# Altium footprint library Leds.PcbLib: 14 footprints
Each footprint in its own frame and in the unit in brackets; x right, y up, seen from the top. Pads: shape width x height; smd on the part's side, far side on the other; paste and mask are expansions set on the pad; w line width, h text height; cw(c..) or ccw(c..) is an arc to the next point about the centre after c.
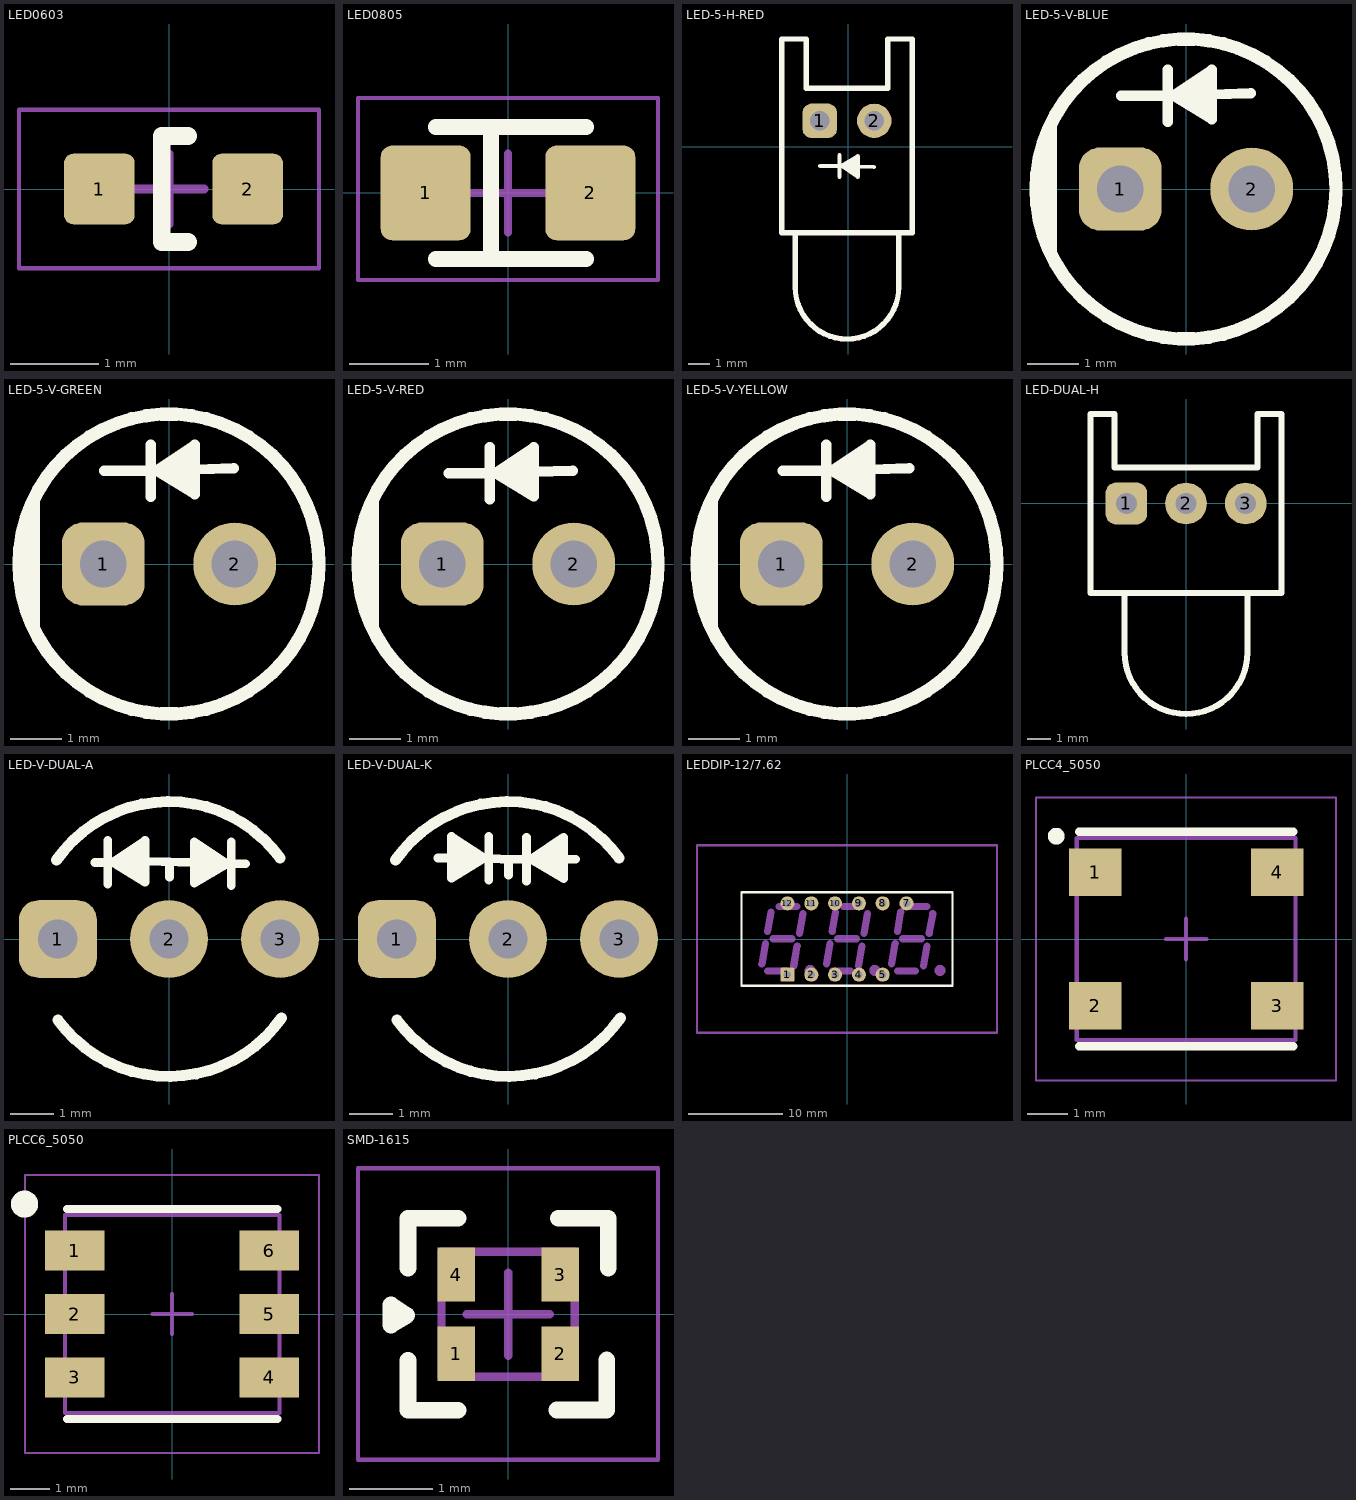
[diagram p0: the footprints below, top view; thin cyan lines are the x and y axes]

## LED0603 [mm]
pads (2):
  rrect25% 0.8x0.8 smd mask+0.05: 1(-0.789,0) 2(0.891,0)
Top Overlay:
  lines w0.2: -0.084,-0.6 0.216,-0.6 -0.084,-0.6 ; -0.084,-0.6 -0.084,0.6 ; -0.084,0.6 0.216,0.6 -0.084,0.6
Mechanical 15:
  lines w0.05: -1.7,-0.9 1.7,-0.9 1.7,0.9 -1.7,0.9 -1.7,-0.9
  lines w0.1: -0.4,0 0.4,0 ; 0,-0.4 0,0.4
3D body "User Library-LED SMD0603.step": height 0.68, standoff 0, extent -0.783,-0.368 0.867,0.357

## LED0805 [mm]
pads (2):
  rrect25% 1.14x1.2 smd mask+0.05: 1(-1.042,0) 2(1.042,0)
Top Overlay:
  lines w0.2: -0.915,-0.835 0.99,-0.835 ; -0.915,0.835 0.99,0.835 ; -0.215,-0.8 -0.215,0.8
Mechanical 15:
  lines w0.05: -1.9,-1.1 -1.9,1.2 1.9,1.2 1.9,-1.1 -1.9,-1.1
  lines w0.1: -0.5,0 0.5,0 ; 0,-0.5 0,0.5
3D body "User Library-LED SMD0805.step": height 0.85, standoff 0.01, extent -1.019,-0.45 1.043,0.456

## LED-5-H-RED [mm] "LED; 2 Leads; Hor"
pads (2):
  rrect50% 1.6x1.6 hole 0.9: 1(-1.32,1.2)
  round 1.6 hole 0.9: 2(1.22,1.2)
Top Overlay:
  region: 0.45,-0.425 0.45,-1.375 -0.3,-0.925
  lines w0.2: -1.3,-0.9 -0.4,-0.9 ; -0.4,-1.4 -0.4,-0.4 ; 0.45,-0.925 1.2,-0.95 ; -0.3,-0.9 0.45,-1.4 0.45,-0.45 -0.3,-0.9
  lines w0.254: -2.463,-4.007 -2.463,-6.547 ccw(c-0.05,-6.547) 2.363,-6.547 2.363,-4.007 ; -3.098,-4.007 -3.098,5.01 -1.955,5.01 -1.955,2.724 1.855,2.724 1.855,5.01 2.998,5.01 2.998,-4.007 -3.098,-4.007
3D body "ALSRobot-LED Red 5mm V.step": height 7, standoff -2, extent -3.05,-9.207 2.6,1.512

## LED-5-V-BLUE [mm] "LED; 2 Leads; Vertical"
height 10
pads (2):
  rrect50% 1.6x1.6 hole 0.9: 1(-1.27,0)
  round 1.6 hole 0.9: 2(1.27,0)
Top Overlay:
  circle w0.254: c0,0 r2.896
  region: 0.5,2.3 0.5,1.35 -0.25,1.8
  region: -2.5,1.376 -2.644,1.232 -2.8,1.076 -2.8,-0.999 -2.5,-1.299
  lines w0.2: -1.25,1.8 -0.35,1.8 ; -0.35,1.3 -0.35,2.3 ; 0.5,1.825 1.25,1.85 ; -0.25,1.8 0.5,2.3 0.5,1.35 -0.25,1.8
3D body "everlight-5MM-LED-BLUE.step": height 12.04, standoff -3.93, extent -2.5,-2.95 2.95,2.95

## LED-5-V-GREEN [mm] "LED; 2 Leads; Vertical"
height 10
pads (2):
  rrect50% 1.6x1.6 hole 0.9: 1(-1.27,0)
  round 1.6 hole 0.9: 2(1.27,0)
Top Overlay:
  circle w0.254: c0,0 r2.896
  region: 0.5,2.3 0.5,1.35 -0.25,1.8
  region: -2.5,1.326 -2.644,1.182 -2.8,1.026 -2.8,-1.049 -2.5,-1.349
  lines w0.2: -1.25,1.8 -0.35,1.8 ; -0.35,1.3 -0.35,2.3 ; 0.5,1.825 1.25,1.85 ; -0.25,1.8 0.5,2.3 0.5,1.35 -0.25,1.8
3D body "everlight-5MM-LED-GREEN.step": height 12.04, standoff -3.93, extent -2.5,-2.95 2.95,2.95

## LED-5-V-RED [mm] "LED; 2 Leads; Vertical"
height 10
pads (2):
  rrect50% 1.6x1.6 hole 0.9: 1(-1.27,0)
  round 1.6 hole 0.9: 2(1.27,0)
Top Overlay:
  circle w0.254: c0,0 r2.896
  region: -2.5,1.326 -2.644,1.182 -2.8,1.026 -2.8,-1.049 -2.5,-1.349
  region: 0.5,2.253 0.5,1.303 -0.25,1.753
  lines w0.2: -1.145,1.753 -0.35,1.753 ; -0.35,1.253 -0.35,2.253 ; 0.5,1.778 1.25,1.803 ; -0.25,1.753 0.5,1.303 0.5,2.253 -0.25,1.753
3D body "ALSRobot-LED Red 5mm.STEP": height 12.31, standoff -2.49, extent 1.29,-4.824 6.71,1.196

## LED-5-V-YELLOW [mm] "LED; 2 Leads; Vertical"
height 10
pads (2):
  rrect50% 1.6x1.6 hole 0.9: 1(-1.27,0)
  round 1.6 hole 0.9: 2(1.27,0)
Top Overlay:
  circle w0.254: c0,0 r2.896
  region: -2.5,1.326 -2.644,1.182 -2.8,1.026 -2.8,-1.049 -2.5,-1.349
  region: 0.45,2.25 0.45,1.3 -0.3,1.75
  lines w0.2: -1.242,1.8 -0.4,1.8 ; -0.4,1.3 -0.4,2.3 ; 0.45,1.825 1.2,1.85 ; -0.3,1.8 0.45,2.3 0.45,1.35 -0.3,1.8
3D body "everlight-5MM-LED-YELLOW.step": height 12.04, standoff -3.93, extent -2.5,-2.95 2.95,2.95

## LED-DUAL-H [mil] "DUAL LED; 3 Leads; Hor"
pads (3):
  rrect50% 70x70 hole 35.43: 1(-100,0)
  round 70 hole 35.43: 2(0,0) 3(100,0)
Top Overlay:
  lines w10: -103,-251 -103,-151 ; -102.96,-250 ccw(c0,-250) 102.96,-250 ; 103,-250 103,-150 ; -160,-150 160,-150 160,150 120,150 120,60 -120,60 -120,150 -160,150 -160,-150

## LED-V-DUAL-A [mil] "DUAL LED; 3 Leads; Common anode"
pads (3):
  rrect50% 70x70 hole 35.43: 1(-100,0)
  round 70 hole 35.43: 2(0,0) 3(100,0)
Top Overlay:
  region: -21.65,88.58 -21.65,51.18 -51.18,68.9
  region: 22.64,87.6 22.64,50.2 52.17,67.91
  lines w7.87: -66.93,68.9 -55.12,68.9 ; -55.12,49.21 -55.12,88.58 ; -21.65,69.88 22.64,68.9 ; 0.34,55.54 0.49,69.39 ; 56.1,48.23 56.1,87.6 ; 56.1,67.91 68.8,67.83 ; -51.18,68.9 -21.65,51.18 -21.65,88.58 -51.18,68.9 ; 22.64,50.2 22.64,87.6 52.17,67.91 22.64,50.2
  lines w10: -101.33,70.93 cw(c0,0) 100.04,72.75 ; -100.04,-72.75 ccw(c0,0) 101.33,-70.93
3D body "User Library-5BC-3-CA-F.STEP": height 476.38, standoff -98.83, extent -109.7,-114.17 113.69,114.17

## LED-V-DUAL-K [mil] "DUAL LED; 3 Leads; Common cathode"
pads (3):
  rrect50% 70x70 hole 35.43: 1(-100,0)
  round 70 hole 35.43: 2(0,0) 3(100,0)
Top Overlay:
  region: -50.89,92.3 -50.89,54.9 -21.36,72.62
  region: 50.2,91.54 50.2,54.13 20.67,71.85
  lines w7.87: -62.99,72.83 -55.12,72.83 ; -28.95,72.48 15.35,71.5 ; -17.42,52.93 -17.42,92.3 ; 0.34,57.5 0.49,71.36 ; 16.73,52.17 16.73,91.54 ; 50.19,71.89 61.02,71.82 ; -50.89,54.9 -21.36,72.62 -50.89,92.3 -50.89,54.9 ; 20.67,71.85 50.2,91.54 50.2,54.13 20.67,71.85
  lines w10: -101.33,70.93 cw(c0,0) 100.04,72.75 ; -100.04,-72.75 ccw(c0,0) 101.33,-70.93
3D body "User Library-5BC-3-CA-F.STEP": height 476.38, standoff -98.83, extent -109.69,-104.17 114.18,124.18

## LEDDIP-12/7.62 [mm] "LED, 7-Segment Display, 7.62 mm, RHD; 10 Leads; Row Space 5.08 mm; Pitch 2.54 mm"
height 6.34
pads (11):
  rrect25% 1.5x1.5 hole 0.8: 1(-6.35,-3.81)
  round 1.5 hole 0.8: 2(-3.81,-3.81) 3(-1.27,-3.81) 4(1.27,-3.81) 5(3.81,-3.81) 7(6.35,3.81) 8(3.81,3.81) 9(1.27,3.81) 10(-1.27,3.81) 11(-3.81,3.81) 12(-6.35,3.81)
Top Overlay:
  lines w0.254: -11.25,-5 11.25,-5 11.25,5 -11.25,5 -11.25,-5
Mechanical 1:
  circle w0.86: c9.92,-3.355 r0.15
  circle w0.86: c2.97,-3.355 r0.15
  circle w0.86: c-3.93,-3.355 r0.15
  lines w0.762: -9.09,-2.665 -8.71,-0.495 ; -8.48,0.785 -8.12,2.865 ; -8.46,-3.405 -6.54,-3.405 ; -7.904,0.025 -5.896,0.025 ; -7.24,3.455 -5.35,3.455 ; -5.68,-2.865 -5.31,-0.735 ; -5.08,0.585 -4.7,2.715 ; -2.19,-2.665 -1.81,-0.495 ; -1.58,0.785 -1.22,2.865 ; -1.56,-3.405 0.36,-3.405 ; -1.004,0.025 1.004,0.025 ; -0.34,3.455 1.55,3.455 ; 1.22,-2.865 1.59,-0.735 ; 1.82,0.585 2.2,2.715 ; 4.76,-2.665 5.14,-0.495 ; 5.37,0.785 5.73,2.865 ; 5.39,-3.405 7.31,-3.405 ; 5.946,0.025 7.954,0.025 ; 6.61,3.455 8.5,3.455 ; 8.17,-2.865 8.54,-0.735 ; 8.77,0.585 9.15,2.715
Mechanical 13:
  lines w0.254: -16,-10 16,-10 16,10 -16,10 -16,-10
3D body "User Library-IND GNT-2831BD.step": height 5.81, standoff -3.5, extent -12,-5.01 12,5

## PLCC4_5050 [mm]
height 1.58
pads (4):
  rect 1.3x1.17 smd: 1(-2.25,1.65) 2(-2.25,-1.65) 3(2.25,-1.65) 4(2.25,1.65)
Top Overlay:
  circle w0.254: c-3.21,2.54 r0.081
  lines w0.2: -2.65,-2.65 2.65,-2.65 ; -2.65,2.65 2.65,2.65
Mechanical 13:
  lines w0.1: -2.703,-2.5 -2.703,2.489 2.699,2.489 2.699,-2.5 -2.703,-2.5
Mechanical 15:
  lines w0.05: -3.71,-3.5 -3.71,3.5 3.7,3.5 3.7,-3.5 -3.71,-3.5
  lines w0.1: -0.5,0 0.5,0 ; 0,-0.5 0,0.5
3D body "ws2812B-1.step": height 1.55, standoff -0.02, extent -2.7,-2.5 2.7,2.5

## PLCC6_5050 [mm]
height 1.6
pads (6):
  rect 1.5x1 smd: 1(-2.45,1.6) 2(-2.45,0) 3(-2.45,-1.6) 4(2.45,-1.6) 5(2.45,0) 6(2.45,1.6)
Top Overlay:
  circle w0.4: c-3.72,2.77 r0.14
  lines w0.2: -2.65,-2.65 2.65,-2.65 ; -2.65,2.65 2.65,2.65
Mechanical 13:
  lines w0.1: -2.703,-2.5 2.699,-2.5 2.699,2.489 -2.703,2.489 -2.703,-2.5
Mechanical 15:
  lines w0.05: -3.71,-3.5 3.7,-3.5 3.7,3.5 -3.71,3.5 -3.71,-3.5
  lines w0.1: -0.5,0 0.5,0 ; 0,-0.5 0,0.5
3D body "User Library-WS2812S_.step": height 1.61, standoff 0.01, extent -2.7,-2.475 2.7,2.475

## SMD-1615 [mm] "SMD, 4-Leads, Body 1.50x1.60mm, Pitch 0.95mm, IPC Medium Density"
height 0.6
pads (4):
  rect 0.45x0.65 smd mask+0.05: 1(-0.625,-0.475) 2(0.625,-0.475) 3(0.625,0.475) 4(-0.625,0.475)
Top Overlay:
  region: -1.407,0.112 -1.407,-0.131 -1.215,-0.015
  lines w0.2: -1.202,0.552 -1.202,1.152 -0.602,1.152 ; -1.202,-0.554 -1.202,-1.154 -0.602,-1.154 ; 0.582,-1.151 1.182,-1.151 1.182,-0.551 ; 0.602,1.152 1.202,1.152 1.202,0.552 ; -1.407,-0.131 -1.407,0.112 -1.215,-0.015 -1.407,-0.131
Mechanical 13:
  lines w0.1: -0.8,-0.75 -0.8,0.75 0.8,0.75 0.8,-0.75 -0.8,-0.75
Mechanical 15:
  lines w0.05: -1.802,-1.748 -1.802,1.751 1.799,1.751 1.799,-1.748 -1.802,-1.748
  lines w0.1: -0.5,0 0.5,0 ; 0,-0.5 0,0.5
3D body: height 0.6, standoff 0, extent -0.8,-0.75 0.8,0.75